# EAGLE library part 74LVC1G98W6-7 (library diodes-inc-e14)
CONFIGURABLE MULTIPLE-FUNCTION GATEGATE
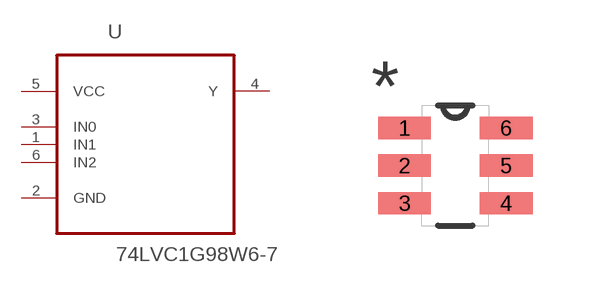
[diagram p11: symbol with the pads of SOT95P280X135-6N; footprint SOT95P280X135-6N]

Designator prefix U

## 74LVC1G98W6-7 (MPN: 74LVC1G98W6-7; OC_FARNELL: 1893844; OC_NEWARK: 47T3930; PACKAGE: SOT-6; SUPPLIER: DIODES INC.)  [SOT95P280X135-6N]
1  IN1  in
2  GND  pas
3  IN0  in
4  Y  out
5  VCC  pwr
6  IN2  in

## Footprint SOT95P280X135-6N (pad centres in mm)
smd 1.321 x 0.559: 1 -1.27,0.94; 2 -1.27,0; 3 -1.27,-0.94; 4 1.27,-0.94; 5 1.27,0; 6 1.27,0.94